# Altium integrated library Serial_IC.IntLib: 11 symbols
Pins are listed as number, name and electrical type; pins without a type are passive.

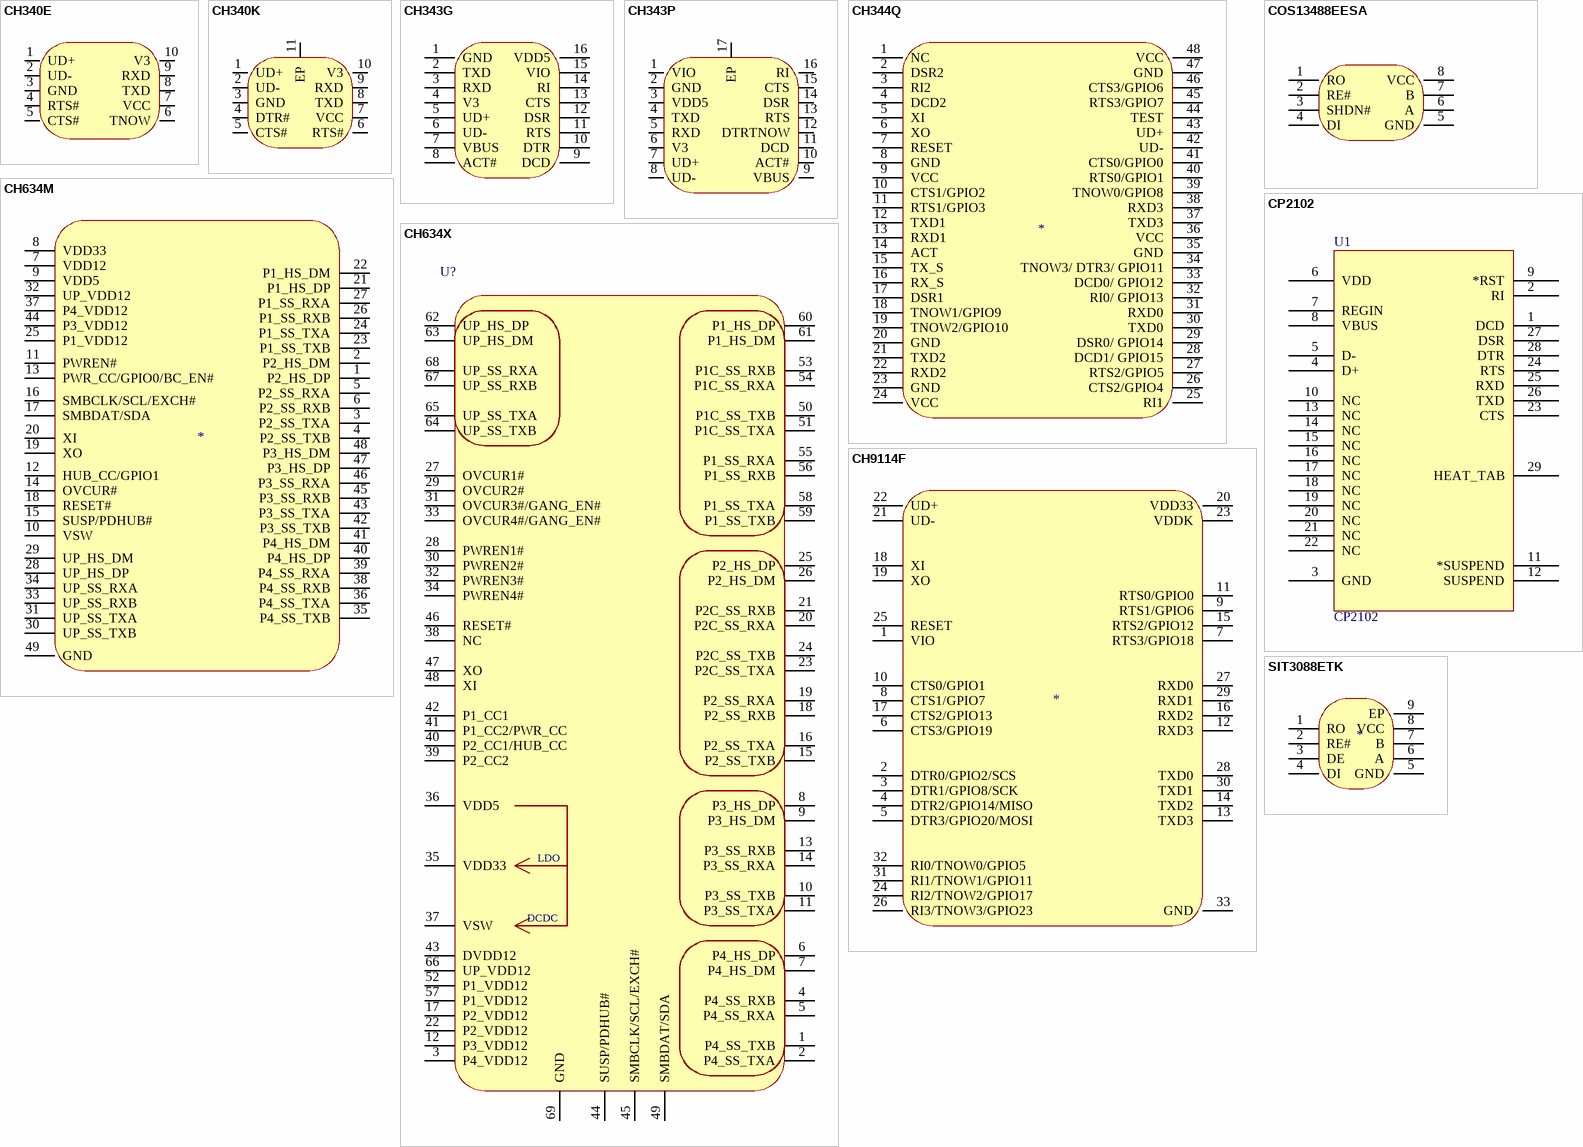
[diagram p0: symbols CH340E to SIT3088ETK]

## CH340E
designator U??  (value not drawn)
Manufacturer: WCH(南京沁恒); Add into BOM: yes; Applications Function: 收发器; Protocol: USB 2.0; Data Rate: 2Mbps; Supply Voltage: 3.3V；5V; Name: CH340E; Symbol: CH340E; Device: CH340E; LCSC Part Name: USB转串口芯片 CH340; Supplier Part: C99652; Manufacturer Part: CH340E; Supplier Footprint: MSOP-10; JLCPCB Part Class: Extended Part; Datasheet: https://atta.szlcsc.com/upload/public/pdf/source/20200819/C99652_97FFC0DF2539BFF05CD752AD9221D632.pdf; Supplier: LCSC; Convert to PCB: yes
footprint MSOP-10_L3.0-W3.0-P0.50-LS5.0-BL
pins: 1 UD+, 2 UD-, 3 GND, 4 RTS#, 5 CTS#, 6 TNOW, 7 VCC, 8 TXD, 9 RXD, 10 V3

## CH340K
designator U??  (value not drawn)
Manufacturer: WCH(南京沁恒); Add into BOM: yes; Symbol: CH340K; Device: CH340K; LCSC Part Name: CH340K USB转串口芯片 CH340; Supplier Part: C968586; Manufacturer Part: CH340K; Supplier Footprint: ESSOP-10-150mil-1mm; JLCPCB Part Class: Extended Part; Datasheet: https://atta.szlcsc.com/upload/public/pdf/source/20240313/C21A12AB66F63ABF8F8743FF13A35C95.pdf; Supplier: LCSC; Convert to PCB: yes; Applications Function: -; Protocol: -
footprint ESOP-10_L4.9-W3.9-P1.00-LS6.2-BL-EP
pins: 1 UD+, 2 UD-, 3 GND, 4 DTR#, 5 CTS#, 6 RTS#, 7 VCC, 8 TXD, 9 RXD, 10 V3, 11 EP

## CH343G
designator U??  (value not drawn)
Manufacturer: WCH(南京沁恒); Add into BOM: yes; Name: CH343G; Symbol: CH343G; Device: CH343G; LCSC Part Name: CH343G; Supplier Part: C2844153; Manufacturer Part: CH343G; Supplier Footprint: SOP-16; JLCPCB Part Class: Extended Part; Datasheet: https://atta.szlcsc.com/upload/public/pdf/source/20211010/C2846043_7FA705E1F14A2906F6A2AFA45FA28209.pdf; Supplier: LCSC; Convert to PCB: yes; Applications Function: -; Protocol: -
footprint SOP-16_L10.0-W3.9-P1.27-LS6.0-BL
pins: 1 GND, 2 TXD, 3 RXD, 4 V3, 5 UD+, 6 UD-, 7 VBUS, 8 ACT#, 9 DCD, 10 DTR, 11 RTS, 12 DSR, 13 CTS, 14 RI, 15 VIO, 16 VDD5

## CH343P
designator ?  (value not drawn)
Designer: U?; Symbol: CH343P; Device: CH343P
footprint TQFN-16_L3.0-W3.0-P0.50-BL-EP1.7
pins: 1 VIO, 2 GND, 3 VDD5, 4 TXD, 5 RXD, 6 V3, 7 UD+, 8 UD-, 9 VBUS, 10 ACT#, 11 DCD, 12 DTRTNOW, 13 RTS, 14 DSR, 15 CTS, 16 RI, 17 EP

## CH344Q
designator U??
Symbol: CH344Q_C2988084
footprint LQFP_48
pins: 1 NC, 2 DSR2, 3 RI2, 4 DCD2, 5 XI, 6 XO, 7 RESET, 8 GND, 9 VCC, 10 CTS1/GPIO2, 11 RTS1/GPIO3, 12 TXD1, 13 RXD1, 14 ACT, 15 TX_S, 16 RX_S, 17 DSR1, 18 TNOW1/GPIO9, 19 TNOW2/GPIO10, 20 GND, 21 TXD2, 22 RXD2, 23 GND, 24 VCC, 25 RI1, 26 CTS2/GPIO4, 27 RTS2/GPIO5, 28 DCD1/ GPIO15, 29 DSR0/ GPIO14, 30 TXD0, 31 RXD0, 32 RI0/ GPIO13, 33 DCD0/ GPIO12, 34 TNOW3/ DTR3/ GPIO11, 35 GND, 36 VCC, 37 TXD3, 38 RXD3, 39 TNOW0/GPIO8, 40 RTS0/GPIO1, 41 CTS0/GPIO0, 42 UD-, 43 UD+, 44 TEST, 45 RTS3/GPIO7, 46 CTS3/GPIO6, 47 GND, 48 VCC

## CH634M
designator U??
Symbol: CH634M_C49118549
footprint QFN-48_L5.0-W5.0-P0.35-BL-EP
pins: 1 P2_HS_DP, 2 P2_HS_DM, 3 P2_SS_TXA, 4 P2_SS_TXB, 5 P2_SS_RXA, 6 P2_SS_RXB, 7 VDD12, 8 VDD33, 9 VDD5, 10 VSW, 11 PWREN#, 12 HUB_CC/GPIO1, 13 PWR_CC/GPIO0/BC_EN#, 14 OVCUR#, 15 SUSP/PDHUB#, 16 SMBCLK/SCL/EXCH#, 17 SMBDAT/SDA, 18 RESET#, 19 XO, 20 XI, 21 P1_HS_DP, 22 P1_HS_DM, 23 P1_SS_TXB, 24 P1_SS_TXA, 25 P1_VDD12, 26 P1_SS_RXB, 27 P1_SS_RXA, 28 UP_HS_DP, 29 UP_HS_DM, 30 UP_SS_TXB, 31 UP_SS_TXA, 32 UP_VDD12, 33 UP_SS_RXB, 34 UP_SS_RXA, 35 P4_SS_TXB, 36 P4_SS_TXA, 37 P4_VDD12, 38 P4_SS_RXB, 39 P4_SS_RXA, 40 P4_HS_DP, 41 P4_HS_DM, 42 P3_SS_TXB, 43 P3_SS_TXA, 44 P3_VDD12, 45 P3_SS_RXB, 46 P3_SS_RXA, 47 P3_HS_DP, 48 P3_HS_DM, 49 GND

## CH634X
designator U?  (value not drawn)
4 ports USB 3.0 SS hub; AddInBom: yes; ModelId: 2cd36f1df5b64778bf4ebfeda52d4af0聨0819f05c4eef4c71ace90d822a990e87; ModelName: QFN-68_L8.0-W8.0-P0.40-BL-EP5.5; ModelTransform: 314.95999115841227,314.95999115841227,33.50387,90,0,0,0,0,0; ConvertToPcb: yes; Footprint Name: QFN68_8X8; SymbolName: CH634X; FootprintName: QFN-68_L8.0-W8.0-P0.40-BL-EP5.5
footprint QFN-68_L8.0-W8.0-P0.40-BL-EP6.2
pins: 1 P4_SS_TXB, 2 P4_SS_TXA, 3 P4_VDD12, 4 P4_SS_RXB, 5 P4_SS_RXA, 6 P4_HS_DP, 7 P4_HS_DM, 8 P3_HS_DP, 9 P3_HS_DM, 10 P3_SS_TXB, 11 P3_SS_TXA, 12 P3_VDD12, 13 P3_SS_RXB, 14 P3_SS_RXA, 15 P2_SS_TXB, 16 P2_SS_TXA, 17 P2_VDD12, 18 P2_SS_RXB, 19 P2_SS_RXA, 20 P2C_SS_RXA, 21 P2C_SS_RXB, 22 P2_VDD12, 23 P2C_SS_TXA, 24 P2C_SS_TXB, 25 P2_HS_DP, 26 P2_HS_DM, 27 OVCUR1#, 28 PWREN1#, 29 OVCUR2#, 30 PWREN2#, 31 OVCUR3#/GANG_EN#, 32 PWREN3#, 33 OVCUR4#/GANG_EN#, 34 PWREN4#, 35 VDD33, 36 VDD5, 37 VSW, 38 NC, 39 P2_CC2, 40 P2_CC1/HUB_CC, 41 P1_CC2/PWR_CC, 42 P1_CC1, 43 DVDD12, 44 SUSP/PDHUB#, 45 SMBCLK/SCL/EXCH#, 46 RESET#, 47 XO, 48 XI, 49 SMBDAT/SDA, 50 P1C_SS_TXB, 51 P1C_SS_TXA, 52 P1_VDD12, 53 P1C_SS_RXB, 54 P1C_SS_RXA, 55 P1_SS_RXA, 56 P1_SS_RXB, 57 P1_VDD12, 58 P1_SS_TXA, 59 P1_SS_TXB, 60 P1_HS_DP, 61 P1_HS_DM, 62 UP_HS_DP, 63 UP_HS_DM, 64 UP_SS_TXB, 65 UP_SS_TXA, 66 UP_VDD12, 67 UP_SS_RXB, 68 UP_SS_RXA, 69 GND
text: LDO; DCDC

## CH9114F
designator U??
Symbol: CH9114F_C46061832
footprint QFN-32_L4.0-W4.0-P0.40-BL-EP2.7-A
pins: 1 VIO, 2 DTR0/GPIO2/SCS, 3 DTR1/GPIO8/SCK, 4 DTR2/GPIO14/MISO, 5 DTR3/GPIO20/MOSI, 6 CTS3/GPIO19, 7 RTS3/GPIO18, 8 CTS1/GPIO7, 9 RTS1/GPIO6, 10 CTS0/GPIO1, 11 RTS0/GPIO0, 12 RXD3, 13 TXD3, 14 TXD2, 15 RTS2/GPIO12, 16 RXD2, 17 CTS2/GPIO13, 18 XI, 19 XO, 20 VDD33, 21 UD-, 22 UD+, 23 VDDK, 24 RI2/TNOW2/GPIO17, 25 RESET, 26 RI3/TNOW3/GPIO23, 27 RXD0, 28 TXD0, 29 RXD1, 30 TXD1, 31 RI1/TNOW1/GPIO11, 32 RI0/TNOW0/GPIO5, 33 GND

## COS13488EESA
designator U??
Symbol: COS13488EESA
footprint SOIC-8_L4.9-W3.9-P1.27-LS6.0-BL
pins: 1 RO, 2 RE#, 3 SHDN#, 4 DI, 5 GND, 6 A, 7 B, 8 VCC

## CP2102
designator U1
USB-TTL; PART DESC: SINGLE-CHIP USB TO UART BRIDGE, QFN28, RoHS.; MFG #1: SILICON LABS; PART NUMBER: CP2102; Value: Value; RefDes: RefDes; Type: DEV
footprint QFN_28
pins: 1 DCD, 2 RI, 3 GND, 4 D+, 5 D-, 6 VDD, 7 REGIN, 8 VBUS, 9 *RST, 10 NC, 11 *SUSPEND, 12 SUSPEND, 13 NC, 14 NC, 15 NC, 16 NC, 17 NC, 18 NC, 19 NC, 20 NC, 21 NC, 22 NC, 23 CTS, 24 RTS, 25 RXD, 26 TXD, 27 DSR, 28 DTR, 29 HEAT_TAB

## SIT3088ETK
designator U??
Symbol: SIT3088ETK
footprint DFN-8_L3.0-W3.0-P0.65-BL-EP
pins: 1 RO, 2 RE#, 3 DE, 4 DI, 5 GND, 6 A, 7 B, 8 VCC, 9 EP